# Altium footprint library 7843332000.PcbLib: 1 footprints
Each footprint in its own frame and in the unit in brackets; x right, y up, seen from the top. Pads: shape width x height; smd on the part's side, far side on the other; paste and mask are expansions set on the pad; w line width, h text height; cw(c..) or ccw(c..) is an arc to the next point about the centre after c.
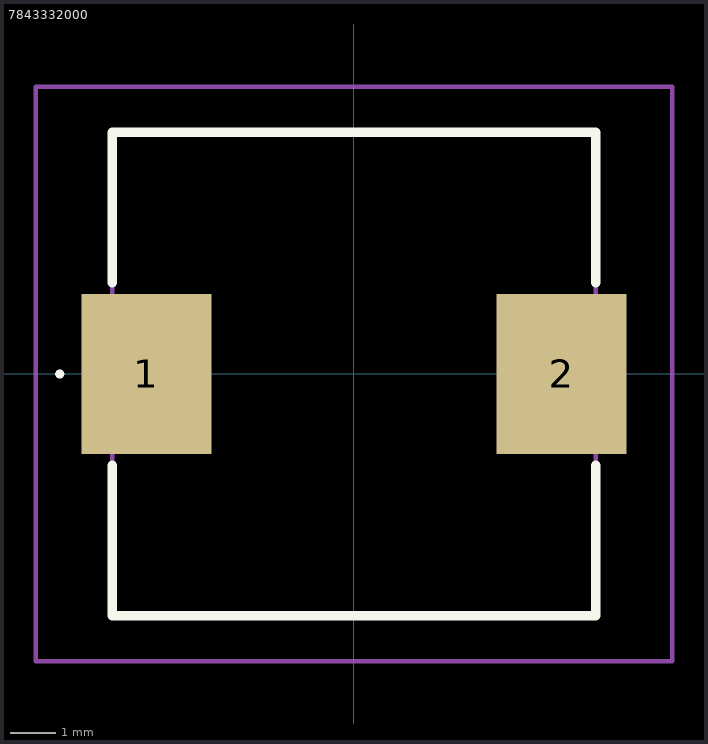
[diagram p0: the footprint, top view; thin cyan lines are the x and y axes]

## 7843332000 [mm]
pads (2):
  rect 2.85x3.5 smd: 1(-4.55,0) 2(4.55,0)
Top Overlay:
  lines w0.1: -6.5,0 -6.5,0 ; -6.5,0 ccw(c-6.45,0) -6.4,0 ; -6.5,0 cw(c-6.45,0) -6.4,0 ; -6.4,0 -6.4,0
  lines w0.2: -5.3,-2 -5.3,-5.3 5.3,-5.3 5.3,-2 ; -5.3,2 -5.3,5.3 5.3,5.3 5.3,2
Mechanical 15:
  lines w0.1: -5.3,-5.3 5.3,-5.3 5.3,5.3 -5.3,5.3 -5.3,-5.3
Mechanical 20:
  lines w0.1: -6.975,-6.3 6.975,-6.3 6.975,6.3 -6.975,6.3 -6.975,-6.3